# Altium footprint library ICs.PcbLib: 21 footprints (part 1 of 2)
Each footprint in its own frame and in the unit in brackets; x right, y up, seen from the top. Pads: shape width x height; smd on the part's side, far side on the other; paste and mask are expansions set on the pad; w line width, h text height; cw(c..) or ccw(c..) is an arc to the next point about the centre after c.
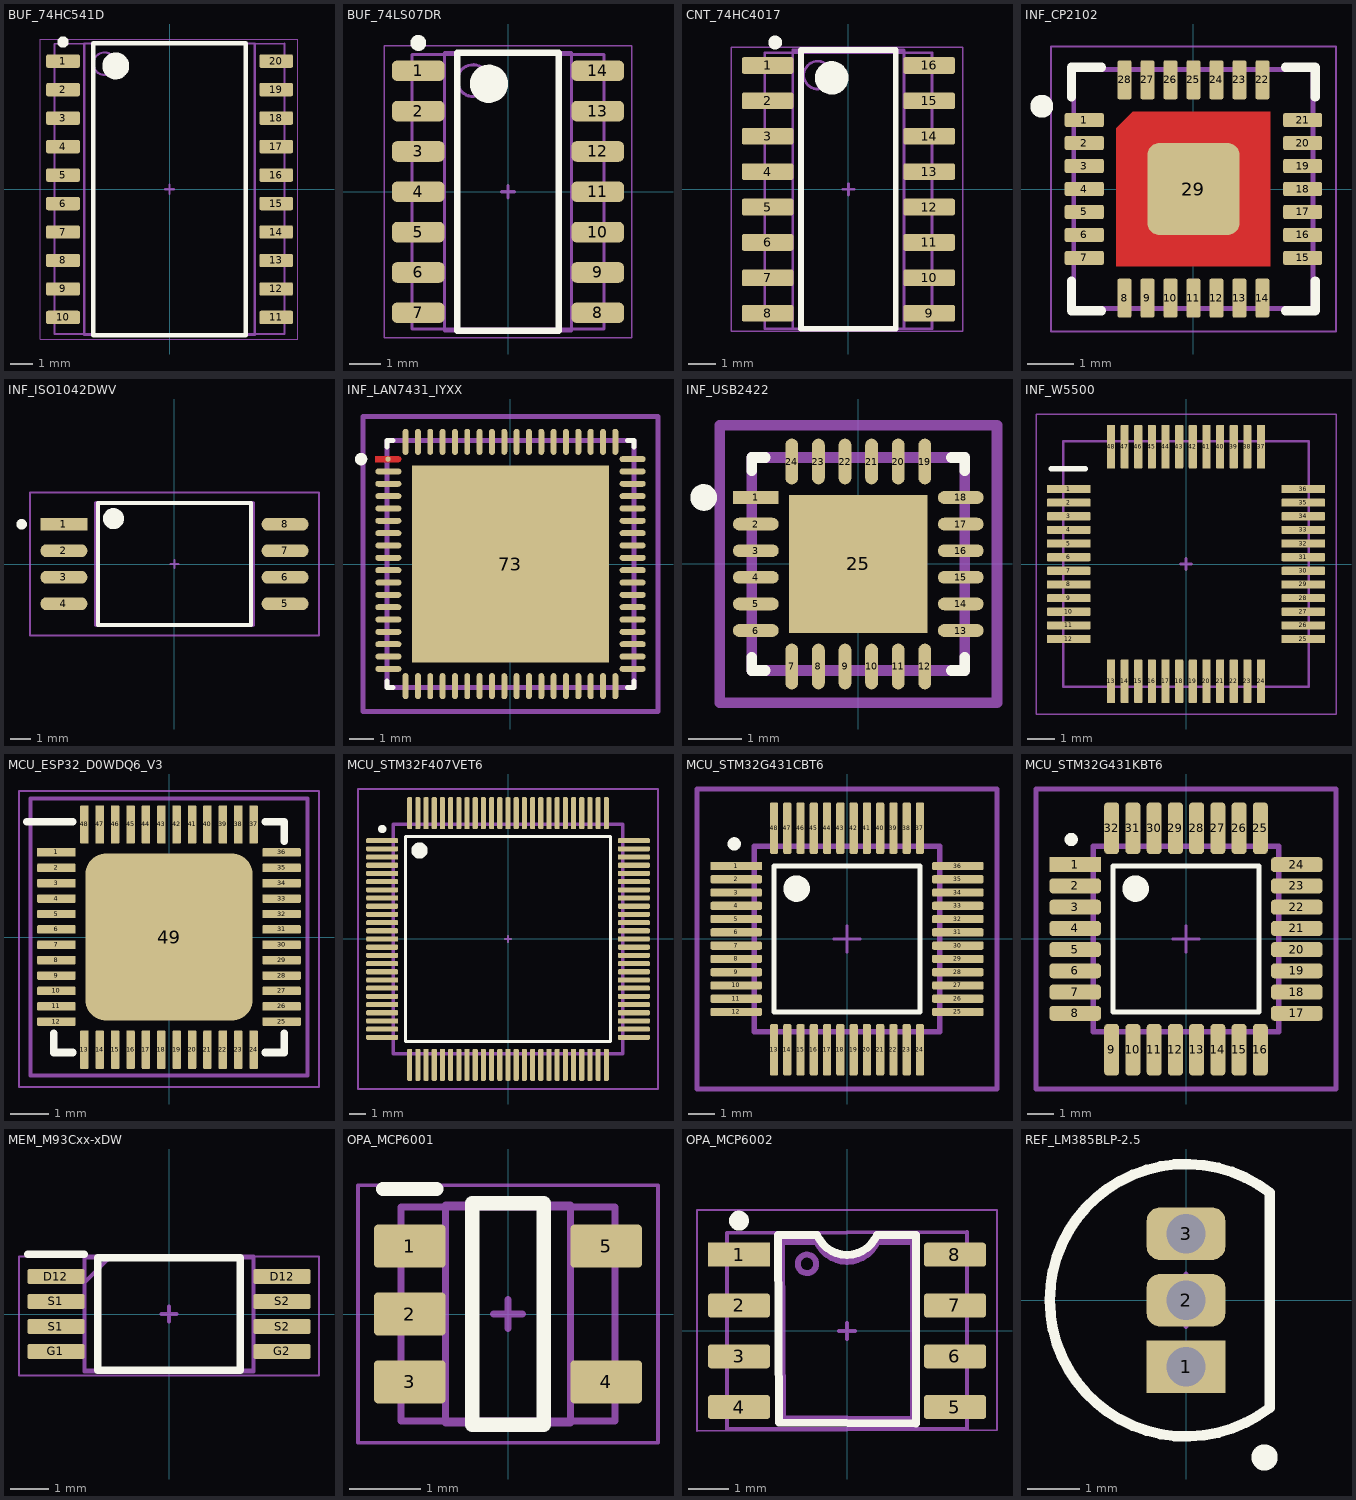
[diagram p0: the footprints below, top view; thin cyan lines are the x and y axes]

## BUF_74HC541D [mm]
pads (20):
  rrect25% 1.5x0.6 smd: 1(-4.75,5.715) 2(-4.75,4.445) 3(-4.75,3.175) 4(-4.75,1.905) 5(-4.75,0.635) 6(-4.75,-0.635) 7(-4.75,-1.905) 8(-4.75,-3.175) 9(-4.75,-4.445) 10(-4.75,-5.715) 11(4.75,-5.715) 12(4.75,-4.445) 13(4.75,-3.175) 14(4.75,-1.905) 15(4.75,-0.635) 16(4.75,0.635) 17(4.75,1.905) 18(4.75,3.175) 19(4.75,4.445) 20(4.75,5.715)
Top Overlay:
  circle w0.6: c-2.4,5.5 r0.3
  circle w0.25: c-4.75,6.565 r0.125
  lines w0.2: -3.4,-6.5 -3.4,6.5 3.4,6.5 3.4,-6.5 -3.4,-6.5
Top Component Center:
  lines w0.1: -0.2,0 0.2,0 ; 0,-0.2 0,0.2
Top Assembly:
  lines w0.1: -5.125,-6.45 -5.125,6.475 5.125,6.5 5.125,-6.45 -5.125,-6.45
Top Designator:
  text ".Designator" at -7.643,-0.45 h1.52
Top 3D Body:
  circle w0.1: c-2.9,5.6 r0.5
  lines w0.1: -3.8,-6.5 -3.8,6.5 3.8,6.5 3.8,-6.5 -3.8,-6.5
Top Courtyard:
  lines w0.05: -5.775,-6.675 -5.775,6.7 5.725,6.7 5.725,-6.675 -5.775,-6.675
3D body "SOIC127P1030X265-20L.step": height 2.65, standoff 0, extent -5.162,-6.5 5.162,6.5

## BUF_74LS07DR [mm] "SOIC, 14-Leads, Body 8.75x4mm, Pitch 1.27mm, IPC Low Density"
height 1.75
pads (14):
  rrect50% 1.65x0.65 smd: 1(-2.825,3.81) 2(-2.825,2.54) 3(-2.825,1.27) 4(-2.825,0) 5(-2.825,-1.27) 6(-2.825,-2.54) 7(-2.825,-3.81) 8(2.825,-3.81) 9(2.825,-2.54) 10(2.825,-1.27) 11(2.825,0) 12(2.825,1.27) 13(2.825,2.54) 14(2.825,3.81)
Top Overlay:
  circle w0.6: c-0.6,3.4 r0.3
  circle w0.25: c-2.825,4.685 r0.125
  lines w0.2: -1.6,-4.375 1.6,-4.375 1.6,4.375 -1.6,4.375 -1.6,-4.375
Top Component Center:
  lines w0.1: -0.2,0 0,0 ; 0,-0.2 0,0 ; 0,0.2 0,0 ; 0.2,0 0,0
Top Assembly:
  lines w0.1: -3.025,-4.325 3.025,-4.325 3.025,4.325 -3.025,4.325 -3.025,-4.325
Top Designator:
  text ".Designator" at -7.618,-0.353 h1.52
Top 3D Body:
  circle w0.1: c-1.1,3.5 r0.5
  lines w0.1: -2,-4.375 2,-4.375 2,4.375 -2,4.375 -2,-4.375
Top Courtyard:
  lines w0.05: -3.9,-4.6 3.9,-4.6 3.9,4.6 -3.9,4.6 -3.9,-4.6
3D body "SOIC-14akaD0014AakaM14A.stp": height 1.59, standoff -0.01, extent -3.023,-4.318 3.022,4.318

## CNT_74HC4017 [mm]
pads (16):
  rrect25% 1.85x0.6 smd: 1(-2.9,4.445) 2(-2.9,3.175) 3(-2.9,1.905) 4(-2.9,0.635) 5(-2.9,-0.635) 6(-2.9,-1.905) 7(-2.9,-3.175) 8(-2.9,-4.445) 9(2.9,-4.445) 10(2.9,-3.175) 11(2.9,-1.905) 12(2.9,-0.635) 13(2.9,0.635) 14(2.9,1.905) 15(2.9,3.175) 16(2.9,4.445)
Top Overlay:
  circle w0.25: c-2.625,5.27 r0.125
  circle w0.6: c-0.6,4 r0.3
  lines w0.2: -1.7,-5 -1.7,5 1.7,5 1.7,-5 -1.7,-5
Top Component Center:
  lines w0.1: -0.2,0 0,0 ; 0,-0.2 0,0 ; 0.2,0 0,0 ; 0,0 0,0.2 0,0
Top Assembly:
  lines w0.1: -3,-5 3,-5 3,4.9 -3,4.9 -3,-5
Top Designator:
  text ".Designator" at -7.668,-0.31 h1.52
Top 3D Body:
  circle w0.1: c-1.1,4.1 r0.5
  lines w0.1: -2,-5 -2,5 2,5 2,-5 -2,-5
Top Courtyard:
  lines w0.05: -4.2,-5.1 -4.2,5.1 4.1,5.1 4.1,-5.1 -4.2,-5.1
3D body "SOIC-16akaD0016AakaM16A.stp": height 1.59, standoff -0.01, extent -2.997,-4.953 2.997,4.953

## INF_CP2102 [mm]
pads (29):
  rrect25% 0.85x0.3 smd: 1(-2.375,1.5) 2(-2.375,1) 3(-2.375,0.5) 4(-2.375,0) 5(-2.375,-0.5) 6(-2.375,-1) 7(-2.375,-1.5) 15(2.375,-1.5) 16(2.375,-1) 17(2.375,-0.5) 18(2.375,0) 19(2.375,0.5) 20(2.375,1) 21(2.375,1.5)
  rrect25% 0.3x0.85 smd: 8(-1.5,-2.375) 9(-1,-2.375) 10(-0.5,-2.375) 11(0,-2.375) 12(0.5,-2.375) 13(1,-2.375) 14(1.5,-2.375) 22(1.5,2.375) 23(1,2.375) 24(0.5,2.375) 25(0,2.375) 26(-0.5,2.375) 27(-1,2.375) 28(-1.5,2.375)
  rrect25% 2x2 smd: 29(0,0)
Top Layer:
  region: -1.325,1.675 1.675,1.675 1.675,-1.675 -1.675,-1.675 -1.675,1.325
Top Overlay:
  circle w0.25: c-3.3,1.8 r0.125
  lines w0.2: -2.65,-2 -2.65,-2.65 -2,-2.65 ; -2.65,2 -2.65,2.65 -2,2.65 ; 2,-2.65 2.65,-2.65 2.65,-2 ; 2,2.65 2.65,2.65 2.65,2
Top Component Center:
  lines w0.1: -0.2,0 0,0 ; 0,-0.2 0,0 ; 0,0.2 0,0 ; 0.2,0 0,0
Top Assembly:
  lines w0.1: -2.6,-2.6 -2.6,2.6 -1.8,2.6 2.6,2.6 2.6,-2.6 -2.6,-2.6
Top Designator:
  text ".Designator" at -7.83,-0.508 h1.52
Top Courtyard:
  lines w0.05: -3.1,-3.1 -3.1,3.1 3.1,3.1 3.1,-3.1 -3.1,-3.1
3D body "IC_Silicon_Labs_CP2102N-A02-GQFN28R_eec.STEP": height 0.25, standoff 0, extent -2.975,-2.975 2.975,2.975

## INF_ISO1042DWV [mm]
pads (8):
  rect 2.254x0.622 smd paste+0 mask+0: 1(-5.301,1.905)
  rrect100% 2.254x0.622 smd paste+0 mask+0: 2(-5.301,0.635) 3(-5.301,-0.635) 4(-5.301,-1.905) 5(5.301,-1.905) 6(5.301,-0.635) 7(5.301,0.635) 8(5.301,1.905)
Top Overlay:
  circle w0.5: c-2.924,2.175 r0.25
  circle w0.25: c-7.327,1.905 r0.125
  lines w0.2: -3.674,-2.925 3.674,-2.925 3.674,2.925 -3.674,2.925 -3.674,-2.925
Top Component Center:
  lines w0.1: -0.2,0 0,0 ; 0,-0.2 0,0 ; 0,0.2 0,0 ; 0.2,0 0,0
Top Assembly:
  lines w0.1: -6.927,-3.425 6.927,-3.425 6.927,3.425 -6.927,3.425 -6.927,-3.425
Top Designator:
  text ".Designator" at -7.918,-0.508 h1.52
Top 3D Body:
  lines w0.2: -3.75,-2.925 3.75,-2.925 3.75,2.925 -3.75,2.925 -3.75,-2.925
Top Courtyard:
  lines w0.05: -6.927,-3.425 6.927,-3.425 6.927,3.425 -6.927,3.425 -6.927,-3.425
3D body "IC_Texas_Instruments_AMC1301QDWVQ1_eec.STEP": height 0.25, standoff 0, extent -6.927,-3.425 6.927,3.425

## INF_LAN7431_IYXX [mm]
pads (73):
  round 0.215 smd paste+0 mask+0: 1(-4.963,4.25)
  rrect100% 1.057x0.239 smd paste+0 mask+0: 2(-4.951,3.75) 3(-4.951,3.25) 4(-4.951,2.75) 5(-4.951,2.25) 6(-4.951,1.75) 7(-4.951,1.25) 8(-4.951,0.75) 9(-4.951,0.25) 10(-4.951,-0.25) 11(-4.951,-0.75) 12(-4.951,-1.25) 13(-4.951,-1.75) 14(-4.951,-2.25) 15(-4.951,-2.75) 16(-4.951,-3.25) 17(-4.951,-3.75) 18(-4.951,-4.25) 37(4.951,-4.25) 38(4.951,-3.75) 39(4.951,-3.25) 40(4.951,-2.75) 41(4.951,-2.25) 42(4.951,-1.75) 43(4.951,-1.25) 44(4.951,-0.75) 45(4.951,-0.25) 46(4.951,0.25) 47(4.951,0.75) 48(4.951,1.25) 49(4.951,1.75) 50(4.951,2.25) 51(4.951,2.75) 52(4.951,3.25) 53(4.951,3.75) 54(4.951,4.25)
  rrect100% 0.239x1.057 smd paste+0 mask+0: 19(-4.25,-4.951) 20(-3.75,-4.951) 21(-3.25,-4.951) 22(-2.75,-4.951) 23(-2.25,-4.951) 24(-1.75,-4.951) 25(-1.25,-4.951) 26(-0.75,-4.951) 27(-0.25,-4.951) 28(0.25,-4.951) 29(0.75,-4.951) 30(1.25,-4.951) 31(1.75,-4.951) 32(2.25,-4.951) 33(2.75,-4.951) 34(3.25,-4.951) 35(3.75,-4.951) 36(4.25,-4.951) 55(4.25,4.951) 56(3.75,4.951) 57(3.25,4.951) 58(2.75,4.951) 59(2.25,4.951) 60(1.75,4.951) 61(1.25,4.951) 62(0.75,4.951) 63(0.25,4.951) 64(-0.25,4.951) 65(-0.75,4.951) 66(-1.25,4.951) 67(-1.75,4.951) 68(-2.25,4.951) 69(-2.75,4.951) 70(-3.25,4.951) 71(-3.75,4.951) 72(-4.25,4.951)
  rect 8x8 smd paste-1000 mask+0: 73(0,0)
Top Layer:
  region: -5.479,4.37 -4.542,4.37 -4.518,4.37 -4.474,4.351 -4.44,4.318 -4.422,4.274 -4.422,4.25 -4.422,4.226 -4.44,4.182 -4.474,4.149 -4.518,4.13 -4.542,4.13 -5.479,4.13
Top Overlay:
  circle w0.25: c-6.054,4.25 r0.125
  lines w0.2: -5,-4.75 -5,-5 -4.75,-5 ; -5,4.75 -5,5 -4.75,5 ; 4.75,-5 5,-5 5,-4.75 ; 4.75,5 5,5 5,4.75
Top Paste:
  rectangle: -3.265,1.578 -1.578,3.265
  rectangle: -0.843,1.578 0.843,3.265
  rectangle: 1.578,1.578 3.265,3.265
  rectangle: -3.265,-0.843 -1.578,0.843
  rectangle: -0.843,-0.843 0.843,0.843
  rectangle: 1.578,-0.843 3.265,0.843
  rectangle: -3.265,-3.265 -1.578,-1.578
  rectangle: -0.843,-3.265 0.843,-1.578
  rectangle: 1.578,-3.265 3.265,-1.578
Top Component Center:
  lines w0.1: -0.5,0 0.5,0 ; 0,-0.5 0,0.5
Top Assembly:
  lines w0.2: -5.979,-5.979 5.979,-5.979 5.979,5.979 -5.979,5.979 -5.979,-5.979
Top Designator:
  text ".Designator" at -7.73,-0.508 h1.52
Top 3D Body:
  lines w0.2: -5,-5 5,-5 5,5 -5,5 -5,-5
Top Courtyard:
  lines w0.2: -5.979,-5.979 5.979,-5.979 5.979,5.979 -5.979,5.979 -5.979,-5.979
3D body "IC_Microchip_Technology_LAN7431-I-YXX_eec.STEP": height 0.25, standoff 0, extent -5.979,-5.979 5.979,5.979

## INF_USB2422 [mm]
pads (25):
  rect 0.861x0.239 smd paste+0 mask+0: 1(-1.926,1.25)
  rrect100% 0.861x0.239 smd paste+0 mask+0: 2(-1.926,0.75) 3(-1.926,0.25) 4(-1.926,-0.25) 5(-1.926,-0.75) 6(-1.926,-1.25) 13(1.926,-1.25) 14(1.926,-0.75) 15(1.926,-0.25) 16(1.926,0.25) 17(1.926,0.75) 18(1.926,1.25)
  rrect100% 0.239x0.861 smd paste+0 mask+0: 7(-1.25,-1.926) 8(-0.75,-1.926) 9(-0.25,-1.926) 10(0.25,-1.926) 11(0.75,-1.926) 12(1.25,-1.926) 19(1.25,1.926) 20(0.75,1.926) 21(0.25,1.926) 22(-0.25,1.926) 23(-0.75,1.926) 24(-1.25,1.926)
  rect 2.6x2.6 smd paste-1000 mask+0: 25(0,0)
Top Overlay:
  circle w0.25: c-2.906,1.25 r0.125
  lines w0.2: -2,-1.75 -2,-2 -1.75,-2 ; -2,1.75 -2,2 -1.75,2 ; 1.75,-2 2,-2 2,-1.75 ; 1.75,2 2,2 2,1.75
Top Paste:
  rectangle: -0.822,-0.822 0.822,0.822
Top Component Center:
  lines w0.1: -0.5,0 0.5,0 ; 0,-0.5 0,0.5
Top Assembly:
  lines w0.2: -2.606,-2.606 2.606,-2.606 2.606,2.606 -2.606,2.606 -2.606,-2.606
Top Designator:
  text ".Designator" at -7.843,-0.508 h1.52
Top 3D Body:
  lines w0.2: -2,-2 2,-2 2,2 -2,2 -2,-2
Top Courtyard:
  lines w0.05: -2.606,-2.606 2.606,-2.606 2.606,2.606 -2.606,2.606 -2.606,-2.606
3D body "IC_Microchip_USB2422-MJ_eec.STEP": height 0.25, standoff 0, extent -2.606,-2.606 2.606,2.606

## INF_W5500 [mm] "QFP, 48-Leads, Body 7,00x7,00mm, Pitch 0,50mm, IPC Medium Density"
height 1.6
pads (48):
  rrect25% 1.6x0.3 smd: 1(-4.3,2.75) 2(-4.3,2.25) 3(-4.3,1.75) 4(-4.3,1.25) 5(-4.3,0.75) 6(-4.3,0.25) 7(-4.3,-0.25) 8(-4.3,-0.75) 9(-4.3,-1.25) 10(-4.3,-1.75) 11(-4.3,-2.25) 12(-4.3,-2.75) 25(4.3,-2.75) 26(4.3,-2.25) 27(4.3,-1.75) 28(4.3,-1.25) 29(4.3,-0.75) 30(4.3,-0.25) 31(4.3,0.25) 32(4.3,0.75) 33(4.3,1.25) 34(4.3,1.75) 35(4.3,2.25) 36(4.3,2.75)
  rrect25% 0.3x1.6 smd: 13(-2.75,-4.3) 14(-2.25,-4.3) 15(-1.75,-4.3) 16(-1.25,-4.3) 17(-0.75,-4.3) 18(-0.25,-4.3) 19(0.25,-4.3) 20(0.75,-4.3) 21(1.25,-4.3) 22(1.75,-4.3) 23(2.25,-4.3) 24(2.75,-4.3) 37(2.75,4.3) 38(2.25,4.3) 39(1.75,4.3) 40(1.25,4.3) 41(0.75,4.3) 42(0.25,4.3) 43(-0.25,4.3) 44(-0.75,4.3) 45(-1.25,4.3) 46(-1.75,4.3) 47(-2.25,4.3) 48(-2.75,4.3)
Top Overlay:
  lines w0.2: -4.95,3.5 -3.7,3.5
Top Component Center:
  lines w0.1: -0.2,0 0,0 ; 0,-0.2 0,0 ; 0,0.2 0,0 ; 0.2,0 0,0
Top Assembly:
  lines w0.1: -4.5,-4.5 4.5,-4.5 4.5,4.5 3.9,4.5 -4.5,4.5 -4.5,-4.5
Top Designator:
  text ".Designator" at -7.618,-0.508 h1.52
Top Courtyard:
  lines w0.05: -5.5,-5.5 -5.5,5.5 5.5,5.5 5.5,-5.5 -5.5,-5.5
3D body "User Library-LQFP48_Grid_0_5.STEP": height 1.6, standoff 0, extent -4.5,-4.5 4.5,4.5

## MCU_ESP32_D0WDQ6_V3 [mm]
pads (49):
  rect 1x0.22 smd paste+0 mask+0: 1(-2.927,2.2)
  rrect25% 1x0.22 smd paste+0 mask+0: 2(-2.927,1.8) 3(-2.927,1.4) 4(-2.927,1) 5(-2.927,0.6) 6(-2.927,0.2) 7(-2.927,-0.2) 8(-2.927,-0.6) 9(-2.927,-1) 10(-2.927,-1.4) 11(-2.927,-1.8) 12(-2.927,-2.2) 25(2.927,-2.2) 26(2.927,-1.8) 27(2.927,-1.4) 28(2.927,-1) 29(2.927,-0.6) 30(2.927,-0.2) 31(2.927,0.2) 32(2.927,0.6) 33(2.927,1) 34(2.927,1.4) 35(2.927,1.8) 36(2.927,2.2)
  rrect25% 0.22x1 smd paste+0 mask+0: 13(-2.2,-2.927) 14(-1.8,-2.927) 15(-1.4,-2.927) 16(-1,-2.927) 17(-0.6,-2.927) 18(-0.2,-2.927) 19(0.2,-2.927) 20(0.6,-2.927) 21(1,-2.927) 22(1.4,-2.927) 23(1.8,-2.927) 24(2.2,-2.927) 37(2.2,2.927) 38(1.8,2.927) 39(1.4,2.927) 40(1,2.927) 41(0.6,2.927) 42(0.2,2.927) 43(-0.2,2.927) 44(-0.6,2.927) 45(-1,2.927) 46(-1.4,2.927) 47(-1.8,2.927) 48(-2.2,2.927)
  rrect25% 4.35x4.35 smd paste-1000 mask+0: 49(0,0)
Top Overlay:
  lines w0.2: -3.7,3 -2.5,3 ; -3,-2.5 -3,-3 -2.5,-3 ; 2.5,-3 3,-3 3,-2.5 ; 2.5,3 3,3 3,2.5
Top Paste:
  rectangle: -1.376,-1.376 1.376,1.376
Top Component Center:
  lines w0.1: -0.2,0 0,0 ; 0,-0.2 0,0 ; 0,0.2 0,0 ; 0.2,0 0,0
Top Assembly:
  lines w0.1: -3.6,-3.6 -3.6,3.6 3.6,3.6 3.6,-3.6 -3.6,-3.6
Top Designator:
  text ".Designator" at -7.618,-0.558 h1.52
Top Courtyard:
  lines w0.05: -3.9,-3.9 3.9,-3.9 3.9,3.8 -3.9,3.8 -3.9,-3.9
3D body "IC_Espressif_Systems_ESP32-D0WDQ6-V3_eec.STEP": height 0.25, standoff 0, extent -3.586,-3.586 3.586,3.586

## MCU_STM32F407VET6 [mm]
pads (100):
  rrect50% 1.955x0.312 smd paste+0 mask+0: 1(-7.675,6) 2(-7.675,5.5) 3(-7.675,5) 4(-7.675,4.5) 5(-7.675,4) 6(-7.675,3.5) 7(-7.675,3) 8(-7.675,2.5) 9(-7.675,2) 10(-7.675,1.5) 11(-7.675,1) 12(-7.675,0.5) 13(-7.675,0) 14(-7.675,-0.5) 15(-7.675,-1) 16(-7.675,-1.5) 17(-7.675,-2) 18(-7.675,-2.5) 19(-7.675,-3) 20(-7.675,-3.5) 21(-7.675,-4) 22(-7.675,-4.5) 23(-7.675,-5) 24(-7.675,-5.5) 25(-7.675,-6) 51(7.675,-6) 52(7.675,-5.5) 53(7.675,-5) 54(7.675,-4.5) 55(7.675,-4) 56(7.675,-3.5) 57(7.675,-3) 58(7.675,-2.5) 59(7.675,-2) 60(7.675,-1.5) 61(7.675,-1) 62(7.675,-0.5) 63(7.675,0) 64(7.675,0.5) 65(7.675,1) 66(7.675,1.5) 67(7.675,2) 68(7.675,2.5) 69(7.675,3) 70(7.675,3.5) 71(7.675,4) 72(7.675,4.5) 73(7.675,5) 74(7.675,5.5) 75(7.675,6)
  rrect50% 0.312x1.955 smd paste+0 mask+0: 26(-6,-7.675) 27(-5.5,-7.675) 28(-5,-7.675) 29(-4.5,-7.675) 30(-4,-7.675) 31(-3.5,-7.675) 32(-3,-7.675) 33(-2.5,-7.675) 34(-2,-7.675) 35(-1.5,-7.675) 36(-1,-7.675) 37(-0.5,-7.675) 38(0,-7.675) 39(0.5,-7.675) 40(1,-7.675) 41(1.5,-7.675) 42(2,-7.675) 43(2.5,-7.675) 44(3,-7.675) 45(3.5,-7.675) 46(4,-7.675) 47(4.5,-7.675) 48(5,-7.675) 49(5.5,-7.675) 50(6,-7.675) 76(6,7.675) 77(5.5,7.675) 78(5,7.675) 79(4.5,7.675) 80(4,7.675) 81(3.5,7.675) 82(3,7.675) 83(2.5,7.675) 84(2,7.675) 85(1.5,7.675) 86(1,7.675) 87(0.5,7.675) 88(0,7.675) 89(-0.5,7.675) 90(-1,7.675) 91(-1.5,7.675) 92(-2,7.675) 93(-2.5,7.675) 94(-3,7.675) 95(-3.5,7.675) 96(-4,7.675) 97(-4.5,7.675) 98(-5,7.675) 99(-5.5,7.675) 100(-6,7.675)
Top Overlay:
  circle w0.25: c-7.675,6.71 r0.125
  circle w0.5: c-5.4,5.4 r0.25
  lines w0.2: -6.25,-6.25 -6.25,6.25 6.25,6.25 6.25,-6.25 -6.25,-6.25
Top Component Center:
  lines w0.1: -0.2,0 0,0 ; 0,-0.2 0,0 ; 0,0.2 0,0 ; 0.2,0 0,0
Top Assembly:
  lines w0.1: -9.153,-9.153 -9.153,9.153 9.153,9.153 9.153,-9.153 -9.153,-9.153
Top Designator:
  text ".Designator" at -7.618,-0.508 h1.52
Top 3D Body:
  lines w0.2: -7,-7 -7,7 7,7 7,-7 -7,-7
Top Courtyard:
  lines w0.05: -9.153,-9.153 -9.153,9.153 9.153,9.153 9.153,-9.153 -9.153,-9.153
3D body "IC_STMicroelectronics_STM32H743VIT6_eec.STEP": height 0.25, standoff 0, extent -9.153,-9.153 9.153,9.153

## MCU_STM32G431CBT6 [mm]
pads (48):
  rect 1.955x0.312 smd paste+0 mask+0: 1(-4.175,2.75)
  rrect50% 1.955x0.312 smd paste+0 mask+0: 2(-4.175,2.25) 3(-4.175,1.75) 4(-4.175,1.25) 5(-4.175,0.75) 6(-4.175,0.25) 7(-4.175,-0.25) 8(-4.175,-0.75) 9(-4.175,-1.25) 10(-4.175,-1.75) 11(-4.175,-2.25) 12(-4.175,-2.75) 25(4.175,-2.75) 26(4.175,-2.25) 27(4.175,-1.75) 28(4.175,-1.25) 29(4.175,-0.75) 30(4.175,-0.25) 31(4.175,0.25) 32(4.175,0.75) 33(4.175,1.25) 34(4.175,1.75) 35(4.175,2.25) 36(4.175,2.75)
  rrect50% 0.312x1.955 smd paste+0 mask+0: 13(-2.75,-4.175) 14(-2.25,-4.175) 15(-1.75,-4.175) 16(-1.25,-4.175) 17(-0.75,-4.175) 18(-0.25,-4.175) 19(0.25,-4.175) 20(0.75,-4.175) 21(1.25,-4.175) 22(1.75,-4.175) 23(2.25,-4.175) 24(2.75,-4.175) 37(2.75,4.175) 38(2.25,4.175) 39(1.75,4.175) 40(1.25,4.175) 41(0.75,4.175) 42(0.25,4.175) 43(-0.25,4.175) 44(-0.75,4.175) 45(-1.25,4.175) 46(-1.75,4.175) 47(-2.25,4.175) 48(-2.75,4.175)
Top Overlay:
  circle w0.25: c-4.25,3.585 r0.125
  circle w0.5: c-1.9,1.9 r0.25
  lines w0.2: -2.75,-2.75 2.75,-2.75 2.75,2.75 -2.75,2.75 -2.75,-2.75
Top Component Center:
  lines w0.1: -0.5,0 0.5,0 ; 0,-0.5 0,0.5
Top Assembly:
  lines w0.2: -5.653,-5.653 5.653,-5.653 5.653,5.653 -5.653,5.653 -5.653,-5.653
Top Designator:
  text ".Designator" at -7.618,-0.508 h1.52
Top 3D Body:
  lines w0.2: -3.5,-3.5 3.5,-3.5 3.5,3.5 -3.5,3.5 -3.5,-3.5
Top Courtyard:
  lines w0: -5.653,-5.653 5.653,-5.653 5.653,5.653 -5.653,5.653 -5.653,-5.653
3D body "IC_STMicroelectronics_STM32L072CBT6_eec.STEP": height 0.25, standoff 0, extent -5.653,-5.653 5.653,5.653

## MCU_STM32G431KBT6 [mm]
pads (32):
  rect 1.955x0.566 smd paste+0 mask+0: 1(-4.175,2.8)
  rrect50% 1.955x0.566 smd paste+0 mask+0: 2(-4.175,2) 3(-4.175,1.2) 4(-4.175,0.4) 5(-4.175,-0.4) 6(-4.175,-1.2) 7(-4.175,-2) 8(-4.175,-2.8) 17(4.175,-2.8) 18(4.175,-2) 19(4.175,-1.2) 20(4.175,-0.4) 21(4.175,0.4) 22(4.175,1.2) 23(4.175,2) 24(4.175,2.8)
  rrect50% 0.566x1.955 smd paste+0 mask+0: 9(-2.8,-4.175) 10(-2,-4.175) 11(-1.2,-4.175) 12(-0.4,-4.175) 13(0.4,-4.175) 14(1.2,-4.175) 15(2,-4.175) 16(2.8,-4.175) 25(2.8,4.175) 26(2,4.175) 27(1.2,4.175) 28(0.4,4.175) 29(-0.4,4.175) 30(-1.2,4.175) 31(-2,4.175) 32(-2.8,4.175)
Top Overlay:
  circle w0.25: c-4.325,3.75 r0.125
  circle w0.5: c-1.9,1.9 r0.25
  lines w0.2: -2.75,-2.75 2.75,-2.75 2.75,2.75 -2.75,2.75 -2.75,-2.75
Top Component Center:
  lines w0.1: -0.5,0 0.5,0 ; 0,-0.5 0,0.5
Top Assembly:
  lines w0.2: -5.653,-5.653 -5.653,5.653 5.653,5.653 5.653,-5.653 -5.653,-5.653
Top Designator:
  text ".Designator" at -7.618,-0.508 h1.52
Top 3D Body:
  lines w0.2: -3.5,-3.5 3.5,-3.5 3.5,3.5 -3.5,3.5 -3.5,-3.5
Top Courtyard:
  lines w0.01: -5.653,-5.653 5.653,-5.653 5.653,5.653 -5.653,5.653 -5.653,-5.653
3D body "IC_STMicroelectronics_STM32L010K4T6_eec.STEP": height 0.25, standoff 0, extent -5.653,-5.653 5.653,5.653

## MEM_M93Cxx-xDW [mm]
pads (8):
  rrect25% 1.475x0.4 smd: D12(-2.938,0.975) D12(2.938,0.975) G1(-2.938,-0.975) G2(2.938,-0.975) S1(-2.938,-0.325) S1(-2.938,0.325) S2(2.938,-0.325) S2(2.938,0.325)
Top Overlay:
  lines w0.2: -3.675,1.55 -2.2,1.55 ; -1.85,-1.465 -1.85,1.465 1.85,1.465 1.85,-1.465 -1.85,-1.465
Top Component Center:
  lines w0.1: -0.2,0 0,0 ; 0,-0.2 0,0 ; 0,0.2 0,0 ; 0.2,0 0,0
Top Assembly:
  lines w0.1: -2.2,-1.5 2.2,-1.5 2.2,1.5 -2.2,1.5 -2.2,-1.5
Top Designator:
  text ".Designator" at -7.618,-0.495 h1.52
Top 3D Body:
  lines w0.1: -2.2,0.815 -1.55,1.465 ; -2.2,-1.465 -2.2,1.465 2.2,1.465 2.2,-1.465 -2.2,-1.465
Top Courtyard:
  lines w0.05: -3.9,-1.6 3.9,-1.6 3.9,1.5 -3.9,1.5 -3.9,-1.6
3D body "FS8205A.stp": height 1.2, standoff 0, extent -3.2,-1.465 3.2,1.465

## OPA_MCP6001 [mm] "SOT23, 5-Leads, Body 3.05x1.75mm, Pitch 0.95mm, IPC Medium Density"
height 1.45
pads (5):
  rrect17% 1x0.6 smd: 1(-1.375,0.95) 2(-1.375,0) 3(-1.375,-0.95) 4(1.375,-0.95) 5(1.375,0.95)
Top Overlay:
  lines w0.2: -1.75,1.75 -1,1.75 ; -0.5,-1.55 -0.5,1.55 0.5,1.55 0.5,-1.55 -0.5,-1.55
Top Component Center:
  lines w0.1: -0.2,0 0,0 ; 0,-0.2 0,0 ; 0,0.2 0,0 ; 0.2,0 0,0
Top Assembly:
  lines w0.1: -1.5,-1.5 1.5,-1.5 1.5,1.5 -1.5,1.5 -1.5,-1.5
Top Designator:
  text ".Designator" at -7.618,-0.495 h1.52
Top 3D Body:
  lines w0.1: -0.875,-1.525 0.875,-1.525 0.875,1.525 -0.875,1.525 -0.875,-1.525
Top Courtyard:
  lines w0.05: -2.1,-1.8 2.1,-1.8 2.1,1.8 -2.1,1.8 -2.1,-1.8
3D body "DBV0005AaksMF05A.stp": height 1.08, standoff -0.01, extent -1.422,-1.461 1.422,1.46

## OPA_MCP6002 [mm]
pads (8):
  rect 1.55x0.6 smd: 1(-2.7,1.905)
  rrect25% 1.55x0.6 smd: 2(-2.7,0.635) 3(-2.7,-0.635) 4(-2.7,-1.905) 5(2.7,-1.905) 6(2.7,-0.635) 7(2.7,0.635) 8(2.7,1.905)
Top Overlay:
  circle w0.25: c-2.7,2.755 r0.125
  lines w0.2: -1.731,2.4 -0.75,2.4 ccw(c0,2.712) 0.75,2.4 1.725,2.4 1.725,-2.313 -1.704,-2.287 -1.731,2.4
Top Component Center:
  lines w0.1: -0.2,0 0.2,0 ; 0,-0.2 0,0.2
Top Assembly:
  lines w0.1: -3,-2.45 3,-2.45 3,2.475 -3,2.45 -3,-2.45
Top Designator:
  text ".Designator" at -7.618,-0.245 h1.52
Top 3D Body:
  circle w0.15: c-1,1.675 r0.23
  lines w0.2: -1.655,2.25 -0.75,2.25 ccw(c0,2.562) 0.75,2.25 1.675,2.25 1.675,-2.224 -1.63,-2.201 -1.655,2.25
Top Courtyard:
  lines w0.05: -3.75,-2.5 -3.75,3.025 3.75,3.025 3.75,-2.475 -3.75,-2.5
3D body "SOIC8-N_MC_MCH.step": height 1.76, standoff 0, extent -2.997,-2.451 2.997,2.451

## REF_LM385BLP-2.5 [mm] "TO-92"
height 5.2
pads (3):
  rect 1.5x1 hole 0.75: 1(0,-1.27)
  rrect50% 1.5x1 hole 0.75: 2(0,0) 3(0,1.27)
Top Overlay:
  circle w0.25: c1.5,-3 r0.125
  lines w0.2: 1.601,-2.049 cw(c0,0) 1.601,2.049 1.6,-2.049
Top Designator:
  text ".Designator" at -8.093,-0.783 h1.52
Top 3D Body:
  lines w0.1: 1.601,-2.049 cw(c0,0) 1.601,2.049 1.6,-2.049
Top Courtyard:
  lines w0.1: -0.5,0 0.5,0 ; 0,-0.5 0,0.5
3D body "TO-92 v1.step": height 5.33, standoff -2.77, extent -2.233,-2.289 1.355,2.31